# EAGLE library part ADP1706 (library NASA_LIB)
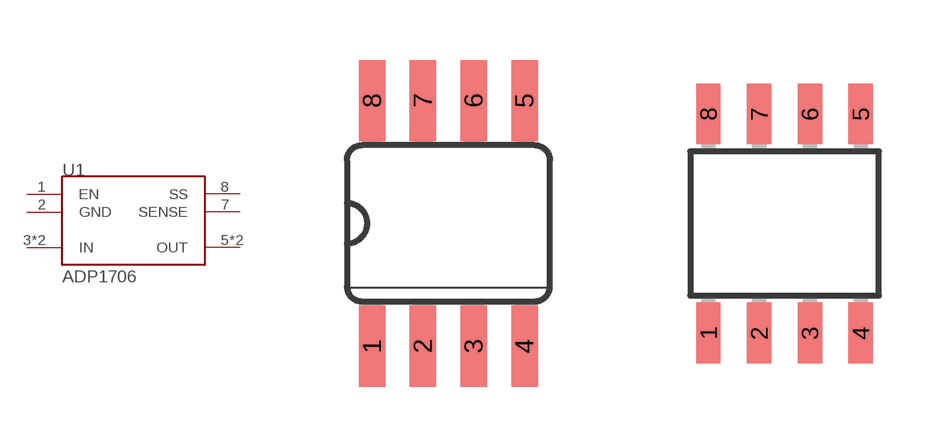
[diagram p25: symbol with the pads of SO08; footprints SO08, SO-8COOL]

Designator prefix U1

## ADP1706NORM  [SO08]
1  EN
2  GND
3  IN
4  IN
5  OUT
6  OUT
7  SENSE
8  SS

## ADP1706COOL  [SO-8COOL]
Pads as for SO08

## Footprint SO08 (pad centres in mm)
smd 0.66 x 2.032: 1 -1.905,-3.073; 2 -0.635,-3.073; 3 0.635,-3.073; 4 1.905,-3.073; 5 1.905,3.073; 6 0.635,3.073; 7 -0.635,3.073; 8 -1.905,3.073

## Footprint SO-8COOL (pad centres in mm)
smd 0.61 x 1.524: 1 -1.905,-2.743; 2 -0.635,-2.743; 3 0.635,-2.743; 4 1.905,-2.743; 5 1.905,2.743; 6 0.635,2.743; 7 -0.635,2.743; 8 -1.905,2.743